# Altium integrated library Comparator.IntLib: 9 symbols
Pins are listed as number, name and electrical type; pins without a type are passive.

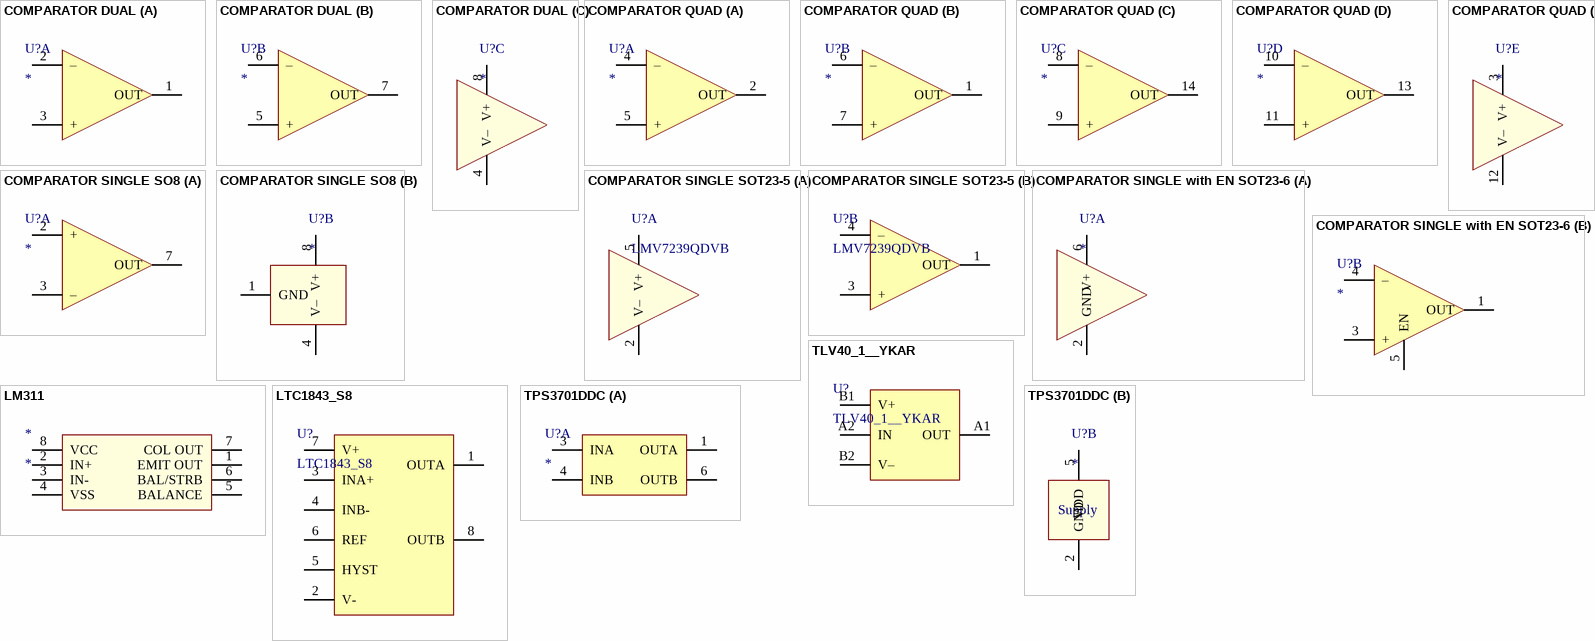
[diagram p0: symbols COMPARATOR DUAL to TPS3701DDC]

## COMPARATOR DUAL
designator U?
Generic dual comparator 8 pins; Value: *
footprint SO8 P1.27 C4.0X5.0 H1.75 (8-Pin Small Outline Integrated Circuit 1.27 mm Pitch, IPC Medium Density)
part A pins: 1 OUT, 2 –, 3 +
part B pins: 5 +, 6 –, 7 OUT
part C pins: 4 V–, 8 V+

## COMPARATOR QUAD
designator U?
Generic quad comparator 14 pins; Value: *
footprint DIP14 P2.54 W7.62 H5.0 (14-Pin Dual in Line Integrated Circuit 2.54 Pitch, 7.62 Width, Case 20x6mm)
footprint SO14 P1.27 C4.0X8.8 H1.75 (SOIC, 14-Leads, Body 4.0X8.8mm, Pitch 1.27mm, IPC Medium Density)
part A pins: 2 OUT, 4 –, 5 +
part B pins: 1 OUT, 6 –, 7 +
part C pins: 8 –, 9 +, 14 OUT
part D pins: 10 –, 11 +, 13 OUT
part E pins: 3 V+, 12 V–

## COMPARATOR SINGLE SO8
designator U?
Generic single comparator SO8; Value: *
footprint SO8 P1.27 C4.0X5.0 H1.75 (8-Pin Small Outline Integrated Circuit 1.27 mm Pitch, IPC Medium Density)
part A pins: 2 +, 3 –, 7 OUT
part B pins: 1 GND, 4 V–, 8 V+

## COMPARATOR SINGLE SOT23-5
designator U?, comment LMV7239QDVB
Generic Single Comparator 5pins 1OUT/2-V/3+IN/4-IN/5+V; Value: LMV7239QDVB
footprint SOT23-5 P0.95 C1.6x3.0 H1.3 (SOT23, 5-Leads, Body 1.6x3.0mm, Pitch 0.95mm, IPC Medium Density)
part A pins: 2 V–, 5 V+
part B pins: 1 OUT, 3 +, 4 –

## COMPARATOR SINGLE with EN SOT23-6
designator U?
Generic single comparator SOT23-6 with enable pin; Value: *
footprint SOT23-6 P0.95 C1.5x3.0 H1.3 (SOT23, 6-Leads, Body 1.6x3.0mm, Pitch 0.95mm, IPC Medium Density)
part A pins: 2 GND, 6 V+
part B pins: 1 OUT, 3 +, 4 –, 5 EN

## LM311
designator *
footprint SO8 P1.27 C4.0X5.0 H1.75 (8-Pin Small Outline Integrated Circuit 1.27 mm Pitch, IPC Medium Density)
pins: 1 EMIT OUT, 2 IN+, 3 IN-, 4 VSS, 5 BALANCE, 6 BAL/STRB, 7 COL OUT, 8 VCC

## LTC1843_S8
designator U?
Ultralow Power Dual Comparators with Reference; Value: LTC1843_S8
footprint SO8 P1.27 C4.0X5.0 H1.75 (8-Pin Small Outline Integrated Circuit 1.27 mm Pitch, IPC Medium Density)
pins: 1 OUTA, 2 V-, 3 INA+, 4 INB-, 5 HYST, 6 REF, 7 V+, 8 OUTB

## TLV40_1__YKAR
designator U?
Single Comparator with reference; Value: TLV40_1__YKAR
footprint BG4 P0.35 C0.7x0.7 H0.4 (BGA, 4-Balls, Body 0.7x0.7mm, Pitch 0.35mm)
pins: A1 OUT, A2 IN, B1 V+, B2 V–

## TPS3701DDC
designator U?
Single Comparator; Value: *
footprint SOT23-6 P0.95 C1.5x3.0 H1.3 (SOT23, 6-Leads, Body 1.6x3.0mm, Pitch 0.95mm, IPC Medium Density)
part A pins: 1 OUTA, 3 INA, 4 INB, 6 OUTB
part B pins: 2 GND, 5 VDD
part B text: Supply